# EAGLE library part STM32F446RET6 (library satcam)
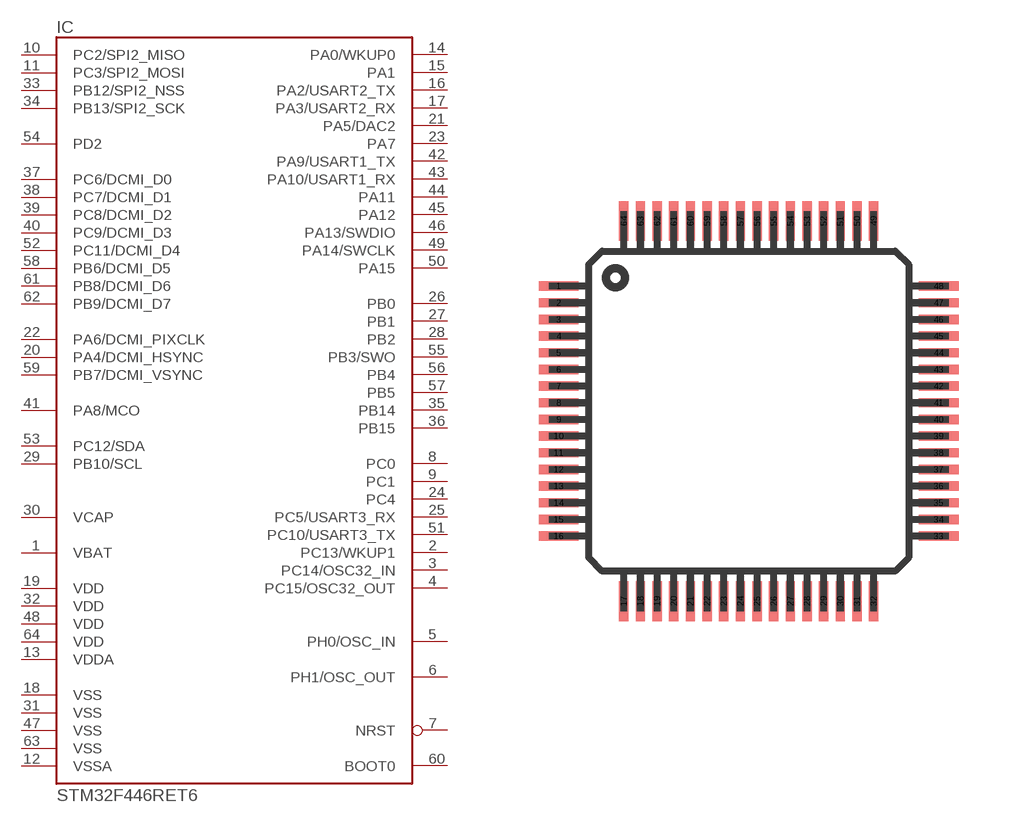
[diagram p2: symbol with the pads of TQFP64-10X10; footprint TQFP64-10X10]

Designator prefix IC

## STM32F446RET6  [TQFP64-10X10]
1  VBAT  pwr
2  PC13/WKUP1
3  PC14/OSC32_IN
4  PC15/OSC32_OUT
5  PH0/OSC_IN
6  PH1/OSC_OUT
7  NRST  in
8  PC0
9  PC1
10  PC2/SPI2_MISO
11  PC3/SPI2_MOSI
12  VSSA  pwr
13  VDDA  pwr
14  PA0/WKUP0
15  PA1
16  PA2/USART2_TX
17  PA3/USART2_RX
18  VSS  pwr
19  VDD  pwr
20  PA4/DCMI_HSYNC
21  PA5/DAC2
22  PA6/DCMI_PIXCLK
23  PA7
24  PC4
25  PC5/USART3_RX
26  PB0
27  PB1
28  PB2
29  PB10/SCL
30  VCAP  pas
31  VSS  pwr
32  VDD  pwr
33  PB12/SPI2_NSS
34  PB13/SPI2_SCK
35  PB14
36  PB15
37  PC6/DCMI_D0
38  PC7/DCMI_D1
39  PC8/DCMI_D2
40  PC9/DCMI_D3
41  PA8/MCO
42  PA9/USART1_TX
43  PA10/USART1_RX
44  PA11
45  PA12
46  PA13/SWDIO
47  VSS  pwr
48  VDD  pwr
49  PA14/SWCLK
50  PA15
51  PC10/USART3_TX
52  PC11/DCMI_D4
53  PC12/SDA
54  PD2
55  PB3/SWO
56  PB4
57  PB5
58  PB6/DCMI_D5
59  PB7/DCMI_VSYNC
60  BOOT0  in
61  PB8/DCMI_D6
62  PB9/DCMI_D7
63  VSS  pwr
64  VDD  pwr

## Footprint TQFP64-10X10 (pad centres in mm)
Thin Quad Flat Pack package type TQ
smd 1.2 x 0.28: 1 -5.7,3.75; 2 -5.7,3.25; 3 -5.7,2.75; 4 -5.7,2.25; 5 -5.7,1.75; 6 -5.7,1.25; 7 -5.7,0.75; 8 -5.7,0.25; 9 -5.7,-0.25; 10 -5.7,-0.75; 11 -5.7,-1.25; 12 -5.7,-1.75; 13 -5.7,-2.25; 14 -5.7,-2.75; 15 -5.7,-3.25; 16 -5.7,-3.75; 33 5.7,-3.75; 34 5.7,-3.25; 35 5.7,-2.75; 36 5.7,-2.25; 37 5.7,-1.75; 38 5.7,-1.25; 39 5.7,-0.75; 40 5.7,-0.25; 41 5.7,0.25; 42 5.7,0.75; 43 5.7,1.25; 44 5.7,1.75; 45 5.7,2.25; 46 5.7,2.75; 47 5.7,3.25; 48 5.7,3.75
smd 0.28 x 1.2: 17 -3.75,-5.7; 18 -3.25,-5.7; 19 -2.75,-5.7; 20 -2.25,-5.7; 21 -1.75,-5.7; 22 -1.25,-5.7; 23 -0.75,-5.7; 24 -0.25,-5.7; 25 0.25,-5.7; 26 0.75,-5.7; 27 1.25,-5.7; 28 1.75,-5.7; 29 2.25,-5.7; 30 2.75,-5.7; 31 3.25,-5.7; 32 3.75,-5.7; 49 3.75,5.7; 50 3.25,5.7; 51 2.75,5.7; 52 2.25,5.7; 53 1.75,5.7; 54 1.25,5.7; 55 0.75,5.7; 56 0.25,5.7; 57 -0.25,5.7; 58 -0.75,5.7; 59 -1.25,5.7; 60 -1.75,5.7; 61 -2.25,5.7; 62 -2.75,5.7; 63 -3.25,5.7; 64 -3.75,5.7